# EAGLE library part TPS63000DRCR (library ossami)
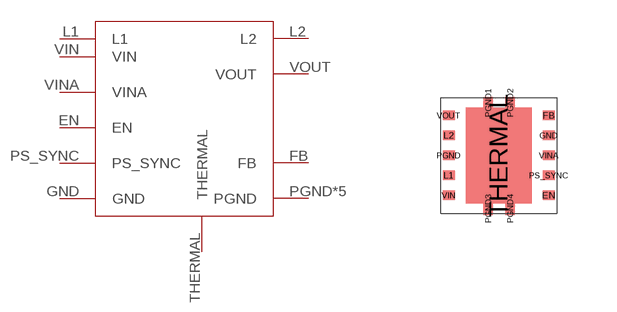
[diagram p0: symbol with the pads of TPS63000DRCR; footprint TPS63000DRCR]

Designator prefix -

## TPS63000DRCR  [TPS63000DRCR]
EN  EN
FB  FB
GND  GND
L1  L1
L2  L2
PGND  PGND
PGND1  PGND
PGND2  PGND
PGND3  PGND
PGND4  PGND
PS_SYNC  PS_SYNC
THERMAL  THERMAL
VIN  VIN
VINA  VINA
VOUT  VOUT

## Footprint TPS63000DRCR (pad centres in mm)
smd 0.3 x 0.24: EN 2.7,0.45; FB 2.7,2.45; GND 2.7,1.95; L1 0.2,0.95; L2 0.2,1.95; PGND 0.2,1.45; PS_SYNC 2.7,0.95; VIN 0.2,0.45; VINA 2.7,1.45; VOUT 0.2,2.45
smd 0.24 x 0.3: PGND1 1.19,2.767; PGND2 1.74,2.767; PGND3 1.19,0.117; PGND4 1.74,0.117
smd 1.65 x 2.4: THERMAL 1.45,1.45